# Altium integrated library Mechanical - Metalwork.IntLib: 5 symbols
Pins are listed as number, name and electrical type; pins without a type are passive.

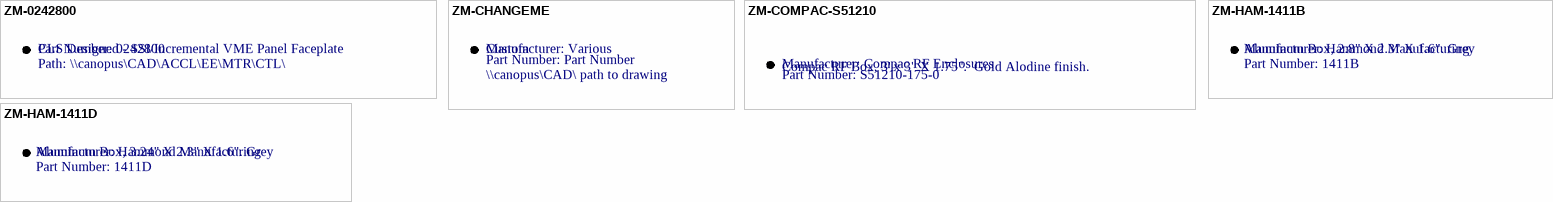
[diagram p0: symbols ZM-0242800 to ZM-HAM-1411D]

## ZM-0242800
designator ZM?, comment Part Number: 0242800  Path: \\canopus\CAD\ACCL\EE\MTR\CTL\  (hidden comment: CLS-0242800)  (mechanical)
CLS Designed - SSI/Incremental VME Panel Faceplate; Manufacturer: Various; Metalwork Type: Front Panel; Material: Aluminum; Features: *; ComponentLink1URL: \\canopus\CAD\ACCL\EE\MTR\CTL\0242800.pdf; ComponentLink1Description: PDF Drawing

## ZM-CHANGEME
designator ZM?, comment Manufacturer: Various  Path: \\canopus\CAD\ path to drawing  (hidden comment: This is just a test)  (mechanical)
Custom; Metalwork Type: Type of metalwork; Material: Material; Features: Special features; ComponentLink1URL: \\canopus\CAD\ path to darwing; ComponentLink1Description: PDF Drawing; Part Number: Part Number

## ZM-COMPAC-S51210
designator ZM?, comment Manufacturer: Compac RF Enclosures  Part Number: S51210-175-0  (hidden comment: Compac RF S51210 Series box)  (mechanical)
Compac RF Box, 3"x 3" X 1.75".  Gold Alodine finish.; Metalwork Type: Box with covers; Material: Aluminum; Features: RF tight enclosure, RF Gasketing; ComponentLink1Description: Datasheet
footprint CompacRF_3x3 (Compac SRF S51210 series 3"x3"x H (various heights) enclosure)

## ZM-HAM-1411B
designator ZM?, comment Manufacturer: Hammond Manufacturing  Part Number: 1411B  (hidden comment: Hammond 1411B)  (mechanical)
Aluminum Box, 2.8" X 2.3" X 1.6". Grey; Metalwork Type: Box; Material: Aluminum; Features: *; Supplier 1: Mouser; Supplier Part Number 1: 546-1411B; Supplier 2: Newark; Supplier Part Number 2: 95F2580; Supplier 3: Allied; Supplier Part Number 3: 70163778; Supplier 4: Digi-Key; Supplier Part Number 4: HM315-ND; ComponentLink1Description: Datasheet

## ZM-HAM-1411D
designator ZM?, comment Manufacturer: Hammond Manufacturing  Part Number: 1411D  (hidden comment: Hammond 1411D)  (mechanical)
Aluminum Box, 3.24" X 2.3" X 1.6". Grey; Metalwork Type: Box; Material: Aluminum; Features: *; Supplier 1: Digi-Key; Supplier Part Number 1: HM317-ND; Supplier 2: Newark; Supplier Part Number 2: 95F2582; Supplier 3: Allied; Supplier Part Number 3: 70163780; Supplier 4: Mouser; Supplier Part Number 4: 546-1411D; ComponentLink1Description: Datasheet